# Altium schematic symbol library R 0603 1% YAGEO.SchLib: 250 symbols (part 1 of 3)
Pins are listed as number, name and electrical type; pins without a type are passive.

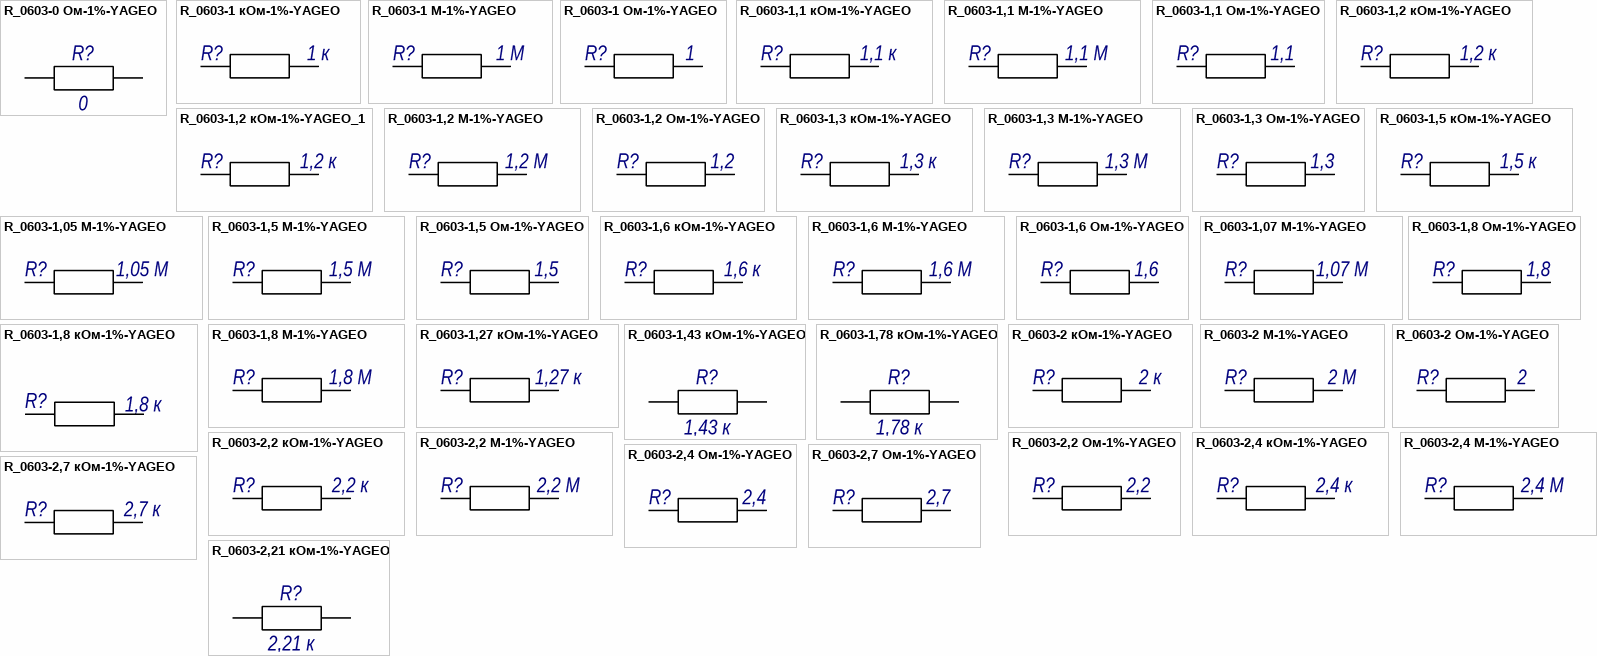
[diagram p0: symbols R_0603-0 Ом-1%-YAGEO to R_0603-2,21 кОм-1%-YAGEO]

## R_0603-0 Ом-1%-YAGEO
designator R?, comment value 0  (hidden comment: Резистор чип 0603-0,1 Вт-0 Ом ±1% фирма "YAGEO")
чип 0603-0,1 Вт-0 Ом ±1% фирма "YAGEO"; Power: 0,1 Вт; Tol: ± 1%; Manufacturer: фирма "YAGEO"; Name: Резистор; TYP: чип 0603; GOST: Резистор чип 0603-0,1 Вт-0 Ом ±1% фирма "YAGEO"
footprint R0603_H05M (Dim 1.6mm*0.8mm H=0.45mm)
pins: 1, 2
1 alternate drawing of the same symbol

## R_0603-1 кОм-1%-YAGEO
designator R?, comment value 1 к  (hidden comment: Резистор чип 0603-0,1 Вт-1 кОм ±1% фирма "YAGEO")
чип 0603-0,1 Вт-1 кОм ±1% фирма "YAGEO"; Power: 0,1 Вт; Tol: ± 1%; Manufacturer: фирма "YAGEO"; Name: Резистор; TYP: чип 0603; GOST: Резистор чип 0603-0,1 Вт-1 кОм ±1% фирма "YAGEO"
footprint R0603_H05M (Dim 1.6mm*0.8mm H=0.45mm)
pins: 1, 2
1 alternate drawing of the same symbol

## R_0603-1 М-1%-YAGEO
designator R?, comment value 1 М  (hidden comment: Резистор чип 0603-0,1 Вт-1 МОм ±1% фирма "YAGEO")
чип 0603-0,1 Вт-1 МОм ±1% фирма "YAGEO"; Power: 0,1 Вт; Tol: ± 1%; Manufacturer: фирма "YAGEO"; Name: Резистор; TYP: чип 0603; GOST: Резистор чип 0603-0,1 Вт-1 МОм ±1% фирма "YAGEO"
footprint R0603_H05M (Dim 1.6mm*0.8mm H=0.45mm)
pins: 1, 2
1 alternate drawing of the same symbol

## R_0603-1 Ом-1%-YAGEO
designator R?, comment value 1  (hidden comment: Резистор чип 0603-0,1 Вт-1 Ом ±1% фирма "YAGEO")
чип 0603-0,1 Вт-1 Ом ±1% фирма "YAGEO"; Power: 0,1 Вт; Tol: ± 1%; Manufacturer: фирма "YAGEO"; Name: Резистор; TYP: чип 0603; GOST: Резистор чип 0603-0,1 Вт-1 Ом ±1% фирма "YAGEO"
footprint R0603_H05M (Dim 1.6mm*0.8mm H=0.45mm)
pins: 1, 2
1 alternate drawing of the same symbol

## R_0603-1,1 кОм-1%-YAGEO
designator R?, comment value 1,1 к  (hidden comment: Резистор чип 0603-0,1 Вт-1,1 кОм ±1% фирма "YAGEO")
чип 0603-0,1 Вт-1,1 кОм ±1% фирма "YAGEO"; Power: 0,1 Вт; Manufacturer: фирма "YAGEO"; Name: Резистор; TYP: чип 0603; GOST: Резистор чип 0603-0,1 Вт-1,1 кОм ±1% фирма "YAGEO"; Tol: ± 1%
footprint R0603_H05M (Dim 1.6mm*0.8mm H=0.45mm)
pins: 1, 2
1 alternate drawing of the same symbol

## R_0603-1,1 М-1%-YAGEO
designator R?, comment value 1,1 М  (hidden comment: Резистор чип 0603-0,1 Вт-1,1 МОм ±1% фирма "YAGEO")
чип 0603-0,1 Вт-1,1 МОм ±1% фирма "YAGEO"; Power: 0,1 Вт; Tol: ± 1%; Manufacturer: фирма "YAGEO"; Name: Резистор; TYP: чип 0603; GOST: Резистор чип 0603-0,1 Вт-1,1 МОм ±1% фирма "YAGEO"
footprint R0603_H05M (Dim 1.6mm*0.8mm H=0.45mm)
pins: 1, 2
1 alternate drawing of the same symbol

## R_0603-1,1 Ом-1%-YAGEO
designator R?, comment value 1,1  (hidden comment: Резистор чип 0603-0,1 Вт-1,1 Ом ±1% фирма "YAGEO")
чип 0603-0,1 Вт-1,1 Ом ±1% фирма "YAGEO"; Power: 0,1 Вт; Tol: ± 1%; Manufacturer: фирма "YAGEO"; Name: Резистор; TYP: чип 0603; GOST: Резистор чип 0603-0,1 Вт-1,1 Ом ±1% фирма "YAGEO"
footprint R0603_H05M (Dim 1.6mm*0.8mm H=0.45mm)
pins: 1, 2
1 alternate drawing of the same symbol

## R_0603-1,2 кОм-1%-YAGEO
designator R?, comment value 1,2 к  (hidden comment: Резистор чип 0603-0,1 Вт-1,2 кОм ±1% фирма "YAGEO")
чип 0603-0,1 Вт-1,2 кОм ±1% фирма "YAGEO"; Power: 0,1 Вт; Manufacturer: фирма "YAGEO"; Name: Резистор; TYP: чип 0603; GOST: Резистор чип 0603-0,1 Вт-1,2 кОм ±1% фирма "YAGEO"; Tol: ± 1%
footprint R0603_H05M (Dim 1.6mm*0.8mm H=0.45mm)
pins: 1, 2
1 alternate drawing of the same symbol

## R_0603-1,2 кОм-1%-YAGEO_1
designator R?, comment value 1,2 к  (hidden comment: Резистор чип 0603-0,1 Вт-1,2 кОм ±1% фирма "YAGEO")
чип 0603-0,1 Вт-1,2 кОм ±1% фирма "YAGEO"; Power: 0,1 Вт; Manufacturer: фирма "YAGEO"; Name: Резистор; TYP: чип 0603; GOST: Резистор чип 0603-0,1 Вт-1,2 кОм ±1% фирма "YAGEO"; Tol: ± 1%
footprint R0603_H05M (Dim 1.6mm*0.8mm H=0.45mm)
pins: 1, 2
1 alternate drawing of the same symbol

## R_0603-1,2 М-1%-YAGEO
designator R?, comment value 1,2 М  (hidden comment: Резистор чип 0603-0,1 Вт-1,2 МОм ±1% фирма "YAGEO")
чип 0603-0,1 Вт-1,2 МОм ±1% фирма "YAGEO"; Power: 0,1 Вт; Tol: ± 1%; Manufacturer: фирма "YAGEO"; Name: Резистор; TYP: чип 0603; GOST: Резистор чип 0603-0,1 Вт-1,2 МОм ±1% фирма "YAGEO"
footprint R0603_H05M (Dim 1.6mm*0.8mm H=0.45mm)
pins: 1, 2
1 alternate drawing of the same symbol

## R_0603-1,2 Ом-1%-YAGEO
designator R?, comment value 1,2  (hidden comment: Резистор чип 0603-0,1 Вт-1,2 Ом ±1% фирма "YAGEO")
чип 0603-0,1 Вт-1,2 Ом ±1% фирма "YAGEO"; Power: 0,1 Вт; Tol: ± 1%; Manufacturer: фирма "YAGEO"; Name: Резистор; TYP: чип 0603; GOST: Резистор чип 0603-0,1 Вт-1,2 Ом ±1% фирма "YAGEO"
footprint R0603_H05M (Dim 1.6mm*0.8mm H=0.45mm)
pins: 1, 2
1 alternate drawing of the same symbol

## R_0603-1,3 кОм-1%-YAGEO
designator R?, comment value 1,3 к  (hidden comment: Резистор чип 0603-0,1 Вт-1,3 кОм ±1% фирма "YAGEO")
чип 0603-0,1 Вт-1,3 кОм ±1% фирма "YAGEO"; Power: 0,1 Вт; Manufacturer: фирма "YAGEO"; Name: Резистор; TYP: чип 0603; GOST: Резистор чип 0603-0,1 Вт-1,3 кОм ±1% фирма "YAGEO"; Tol: ± 1%
footprint R0603_H05M (Dim 1.6mm*0.8mm H=0.45mm)
pins: 1, 2
1 alternate drawing of the same symbol

## R_0603-1,3 М-1%-YAGEO
designator R?, comment value 1,3 М  (hidden comment: Резистор чип 0603-0,1 Вт-1,3 МОм ±1% фирма "YAGEO")
чип 0603-0,1 Вт-1,3 МОм ±1% фирма "YAGEO"; Power: 0,1 Вт; Tol: ± 1%; Manufacturer: фирма "YAGEO"; Name: Резистор; TYP: чип 0603; GOST: Резистор чип 0603-0,1 Вт-1,3 МОм ±1% фирма "YAGEO"
footprint R0603_H05M (Dim 1.6mm*0.8mm H=0.45mm)
pins: 1, 2
1 alternate drawing of the same symbol

## R_0603-1,3 Ом-1%-YAGEO
designator R?, comment value 1,3  (hidden comment: Резистор чип 0603-0,1 Вт-1,3 Ом ±1% фирма "YAGEO")
чип 0603-0,1 Вт-1,3 Ом ±1% фирма "YAGEO"; Power: 0,1 Вт; Tol: ± 1%; Manufacturer: фирма "YAGEO"; Name: Резистор; TYP: чип 0603; GOST: Резистор чип 0603-0,1 Вт-1,3 Ом ±1% фирма "YAGEO"
footprint R0603_H05M (Dim 1.6mm*0.8mm H=0.45mm)
pins: 1, 2
1 alternate drawing of the same symbol

## R_0603-1,5 кОм-1%-YAGEO
designator R?, comment value 1,5 к  (hidden comment: Резистор чип 0603-0,1 Вт-1,5 кОм ±1% фирма "YAGEO")
чип 0603-0,1 Вт-1,5 кОм ±1% фирма "YAGEO"; Power: 0,1 Вт; Manufacturer: фирма "YAGEO"; Name: Резистор; TYP: чип 0603; GOST: Резистор чип 0603-0,1 Вт-1,5 кОм ±1% фирма "YAGEO"; Tol: ± 1%
footprint R0603_H05M (Dim 1.6mm*0.8mm H=0.45mm)
pins: 1, 2
1 alternate drawing of the same symbol

## R_0603-1,05 М-1%-YAGEO
designator R?, comment value 1,05 М  (hidden comment: Резистор чип 0603-0,1 Вт-1,05 МОм ±1% фирма "YAGEO")
чип 0603-0,1 Вт-1,05 МОм ±1% фирма "YAGEO"; Power: 0,1 Вт; Tol: ± 1%; Manufacturer: фирма "YAGEO"; Name: Резистор; TYP: чип 0603; GOST: Резистор чип 0603-0,1 Вт-1,05 МОм ±1% фирма "YAGEO"
footprint R0603_H05M (Dim 1.6mm*0.8mm H=0.45mm)
pins: 1, 2
1 alternate drawing of the same symbol

## R_0603-1,5 М-1%-YAGEO
designator R?, comment value 1,5 М  (hidden comment: Резистор чип 0603-0,1 Вт-1,5 МОм ±1% фирма "YAGEO")
чип 0603-0,1 Вт-1,5 МОм ±1% фирма "YAGEO"; Power: 0,1 Вт; Tol: ± 1%; Manufacturer: фирма "YAGEO"; Name: Резистор; TYP: чип 0603; GOST: Резистор чип 0603-0,1 Вт-1,5 МОм ±1% фирма "YAGEO"
footprint R0603_H05M (Dim 1.6mm*0.8mm H=0.45mm)
pins: 1, 2
1 alternate drawing of the same symbol

## R_0603-1,5 Ом-1%-YAGEO
designator R?, comment value 1,5  (hidden comment: Резистор чип 0603-0,1 Вт-1,5 Ом ±1% фирма "YAGEO")
чип 0603-0,1 Вт-1,5 Ом ±1% фирма "YAGEO"; Power: 0,1 Вт; Tol: ± 1%; Manufacturer: фирма "YAGEO"; Name: Резистор; TYP: чип 0603; GOST: Резистор чип 0603-0,1 Вт-1,5 Ом ±1% фирма "YAGEO"
footprint R0603_H05M (Dim 1.6mm*0.8mm H=0.45mm)
pins: 1, 2
1 alternate drawing of the same symbol

## R_0603-1,6 кОм-1%-YAGEO
designator R?, comment value 1,6 к  (hidden comment: Резистор чип 0603-0,1 Вт-1,6 кОм ±1% фирма "YAGEO")
чип 0603-0,1 Вт-1,6 кОм ±1% фирма "YAGEO"; Power: 0,1 Вт; Manufacturer: фирма "YAGEO"; Name: Резистор; TYP: чип 0603; GOST: Резистор чип 0603-0,1 Вт-1,6 кОм ±1% фирма "YAGEO"; Tol: ± 1%
footprint R0603_H05M (Dim 1.6mm*0.8mm H=0.45mm)
pins: 1, 2
1 alternate drawing of the same symbol

## R_0603-1,6 М-1%-YAGEO
designator R?, comment value 1,6 М  (hidden comment: Резистор чип 0603-0,1 Вт-1,6 МОм ±1% фирма "YAGEO")
чип 0603-0,1 Вт-1,6 МОм ±1% фирма "YAGEO"; Power: 0,1 Вт; Tol: ± 1%; Manufacturer: фирма "YAGEO"; Name: Резистор; TYP: чип 0603; GOST: Резистор чип 0603-0,1 Вт-1,6 МОм ±1% фирма "YAGEO"
footprint R0603_H05M (Dim 1.6mm*0.8mm H=0.45mm)
pins: 1, 2
1 alternate drawing of the same symbol

## R_0603-1,6 Ом-1%-YAGEO
designator R?, comment value 1,6  (hidden comment: Резистор чип 0603-0,1 Вт-1,6 Ом ±1% фирма "YAGEO")
чип 0603-0,1 Вт-1,6 Ом ±1% фирма "YAGEO"; Power: 0,1 Вт; Tol: ± 1%; Manufacturer: фирма "YAGEO"; Name: Резистор; TYP: чип 0603; GOST: Резистор чип 0603-0,1 Вт-1,6 Ом ±1% фирма "YAGEO"
footprint R0603_H05M (Dim 1.6mm*0.8mm H=0.45mm)
pins: 1, 2
1 alternate drawing of the same symbol

## R_0603-1,07 М-1%-YAGEO
designator R?, comment value 1,07 М  (hidden comment: Резистор чип 0603-0,1 Вт-1,07 МОм ±1% фирма "YAGEO")
чип 0603-0,1 Вт-1,07 МОм ±1% фирма "YAGEO"; Power: 0,1 Вт; Tol: ± 1%; Manufacturer: фирма "YAGEO"; Name: Резистор; TYP: чип 0603; GOST: Резистор чип 0603-0,1 Вт-1,07 МОм ±1% фирма "YAGEO"
footprint R0603_H05M (Dim 1.6mm*0.8mm H=0.45mm)
pins: 1, 2
1 alternate drawing of the same symbol

## R_0603-1,8 кОм-1%-YAGEO
designator R?, comment value 1,8 к  (hidden comment: Резистор чип 0603-0,1 Вт-1,8 кОм ±1% фирма "YAGEO")
чип 0603-0,1 Вт-1,8 кОм ±1% фирма "YAGEO"; Power: 0,1 Вт; Tol: ± 1%; Manufacturer: фирма "YAGEO"; Name: Резистор; TYP: чип 0603; GOST: Резистор чип 0603-0,1 Вт-1,8 кОм ±1% фирма "YAGEO"
footprint R0603_H05M (Dim 1.6mm*0.8mm H=0.45mm)
pins: 1, 2
1 alternate drawing of the same symbol

## R_0603-1,8 М-1%-YAGEO
designator R?, comment value 1,8 М  (hidden comment: Резистор чип 0603-0,1 Вт-1,8 МОм ±1% фирма "YAGEO")
чип 0603-0,1 Вт-1,8 МОм ±1% фирма "YAGEO"; Power: 0,1 Вт; Tol: ± 1%; Manufacturer: фирма "YAGEO"; Name: Резистор; TYP: чип 0603; GOST: Резистор чип 0603-0,1 Вт-1,8 МОм ±1% фирма "YAGEO"
footprint R0603_H05M (Dim 1.6mm*0.8mm H=0.45mm)
pins: 1, 2
1 alternate drawing of the same symbol

## R_0603-1,8 Ом-1%-YAGEO
designator R?, comment value 1,8  (hidden comment: Резистор чип 0603-0,1 Вт-1,8 Ом ±1% фирма "YAGEO")
чип 0603-0,1 Вт-1,8 Ом ±1% фирма "YAGEO"; Power: 0,1 Вт; Tol: ± 1%; Manufacturer: фирма "YAGEO"; Name: Резистор; TYP: чип 0603; GOST: Резистор чип 0603-0,1 Вт-1,8 Ом ±1% фирма "YAGEO"
footprint R0603_H05M (Dim 1.6mm*0.8mm H=0.45mm)
pins: 1, 2
1 alternate drawing of the same symbol

## R_0603-1,27 кОм-1%-YAGEO
designator R?, comment value 1,27 к  (hidden comment: Резистор чип 0603-0,1 Вт-1,27 кОм ±1% фирма "YAGEO")
чип 0603-0,1 Вт-1,27 кОм ±1% фирма "YAGEO"; Power: 0,1 Вт; Manufacturer: фирма "YAGEO"; Name: Резистор; TYP: чип 0603; GOST: Резистор чип 0603-0,1 Вт-1,27 кОм ±1% фирма "YAGEO"; Tol: ± 1%
footprint R0603_H05M (Dim 1.6mm*0.8mm H=0.45mm)
pins: 1, 2
1 alternate drawing of the same symbol

## R_0603-1,43 кОм-1%-YAGEO
designator R?, comment value 1,43 к  (hidden comment: Резистор чип 0603-0,1 Вт-1,43 кОм ±1% фирма "YAGEO")
чип 0603-0,1 Вт-1,43 кОм ±1% фирма "YAGEO"; Power: 0,1 Вт; Tol: ± 1%; Manufacturer: фирма "YAGEO"; Name: Резистор; TYP: чип 0603; GOST: Резистор чип 0603-0,1 Вт-1,43 кОм ±1% фирма "YAGEO"
footprint R0603_H05M (Dim 1.6mm*0.8mm H=0.45mm)
pins: 1, 2
1 alternate drawing of the same symbol

## R_0603-1,78 кОм-1%-YAGEO
designator R?, comment value 1,78 к  (hidden comment: Резистор чип 0603-0,1 Вт-1,78 кОм ±1% фирма "YAGEO")
чип 0603-0,1 Вт-1,78 кОм ±1% фирма "YAGEO"; Power: 0,1 Вт; Tol: ± 1%; Manufacturer: фирма "YAGEO"; Name: Резистор; TYP: чип 0603; GOST: Резистор чип 0603-0,1 Вт-1,78 кОм ±1% фирма "YAGEO"
footprint R0603_H05M (Dim 1.6mm*0.8mm H=0.45mm)
pins: 1, 2
1 alternate drawing of the same symbol

## R_0603-2 кОм-1%-YAGEO
designator R?, comment value 2 к  (hidden comment: Резистор чип 0603-0,1 Вт-2 кОм ±1% фирма "YAGEO")
чип 0603-0,1 Вт-2 кОм ±1% фирма "YAGEO"; Power: 0,1 Вт; Manufacturer: фирма "YAGEO"; Name: Резистор; TYP: чип 0603; GOST: Резистор чип 0603-0,1 Вт-2 кОм ±1% фирма "YAGEO"; Tol: ± 1%
footprint R0603_H05M (Dim 1.6mm*0.8mm H=0.45mm)
pins: 1, 2
1 alternate drawing of the same symbol

## R_0603-2 М-1%-YAGEO
designator R?, comment value 2 М  (hidden comment: Резистор чип 0603-0,1 Вт-2 МОм ±1% фирма "YAGEO")
чип 0603-0,1 Вт-2 МОм ±1% фирма "YAGEO"; Power: 0,1 Вт; Tol: ± 1%; Manufacturer: фирма "YAGEO"; Name: Резистор; TYP: чип 0603; GOST: Резистор чип 0603-0,1 Вт-2 МОм ±1% фирма "YAGEO"
footprint R0603_H05M (Dim 1.6mm*0.8mm H=0.45mm)
pins: 1, 2
1 alternate drawing of the same symbol

## R_0603-2 Ом-1%-YAGEO
designator R?, comment value 2  (hidden comment: Резистор чип 0603-0,1 Вт-2 Ом ±1% фирма "YAGEO")
чип 0603-0,1 Вт-2 Ом ±1% фирма "YAGEO"; Power: 0,1 Вт; Tol: ± 1%; Manufacturer: фирма "YAGEO"; Name: Резистор; TYP: чип 0603; GOST: Резистор чип 0603-0,1 Вт-2 Ом ±1% фирма "YAGEO"
footprint R0603_H05M (Dim 1.6mm*0.8mm H=0.45mm)
pins: 1, 2
1 alternate drawing of the same symbol

## R_0603-2,2 кОм-1%-YAGEO
designator R?, comment value 2,2 к  (hidden comment: Резистор чип 0603-0,1 Вт-2,2 кОм ±1% фирма "YAGEO")
чип 0603-0,1 Вт-2,2 кОм ±1% фирма "YAGEO"; Power: 0,1 Вт; Manufacturer: фирма "YAGEO"; Name: Резистор; TYP: чип 0603; GOST: Резистор чип 0603-0,1 Вт-2,2 кОм ±1% фирма "YAGEO"; Tol: ± 1%
footprint R0603_H05M (Dim 1.6mm*0.8mm H=0.45mm)
pins: 1, 2
1 alternate drawing of the same symbol

## R_0603-2,2 М-1%-YAGEO
designator R?, comment value 2,2 М  (hidden comment: Резистор чип 0603-0,1 Вт-2,2 МОм ±1% фирма "YAGEO")
чип 0603-0,1 Вт-2,2 МОм ±1% фирма "YAGEO"; Power: 0,1 Вт; Tol: ± 1%; Manufacturer: фирма "YAGEO"; Name: Резистор; TYP: чип 0603; GOST: Резистор чип 0603-0,1 Вт-2,2 МОм ±1% фирма "YAGEO"
footprint R0603_H05M (Dim 1.6mm*0.8mm H=0.45mm)
pins: 1, 2
1 alternate drawing of the same symbol

## R_0603-2,2 Ом-1%-YAGEO
designator R?, comment value 2,2  (hidden comment: Резистор чип 0603-0,1 Вт-2,2 Ом ±1% фирма "YAGEO")
чип 0603-0,1 Вт-2,2 Ом ±1% фирма "YAGEO"; Power: 0,1 Вт; Tol: ± 1%; Manufacturer: фирма "YAGEO"; Name: Резистор; TYP: чип 0603; GOST: Резистор чип 0603-0,1 Вт-2,2 Ом ±1% фирма "YAGEO"
footprint R0603_H05M (Dim 1.6mm*0.8mm H=0.45mm)
pins: 1, 2
1 alternate drawing of the same symbol

## R_0603-2,4 кОм-1%-YAGEO
designator R?, comment value 2,4 к  (hidden comment: Резистор чип 0603-0,1 Вт-2,4 кОм ±1% фирма "YAGEO")
чип 0603-0,1 Вт-2,4 кОм ±1% фирма "YAGEO"; Power: 0,1 Вт; Manufacturer: фирма "YAGEO"; Name: Резистор; TYP: чип 0603; GOST: Резистор чип 0603-0,1 Вт-2,4 кОм ±1% фирма "YAGEO"; Tol: ± 1%
footprint R0603_H05M (Dim 1.6mm*0.8mm H=0.45mm)
pins: 1, 2
1 alternate drawing of the same symbol

## R_0603-2,4 М-1%-YAGEO
designator R?, comment value 2,4 М  (hidden comment: Резистор чип 0603-0,1 Вт-2,4 МОм ±1% фирма "YAGEO")
чип 0603-0,1 Вт-2,4 МОм ±1% фирма "YAGEO"; Power: 0,1 Вт; Tol: ± 1%; Manufacturer: фирма "YAGEO"; Name: Резистор; TYP: чип 0603; GOST: Резистор чип 0603-0,1 Вт-2,4 МОм ±1% фирма "YAGEO"
footprint R0603_H05M (Dim 1.6mm*0.8mm H=0.45mm)
pins: 1, 2
1 alternate drawing of the same symbol

## R_0603-2,4 Ом-1%-YAGEO
designator R?, comment value 2,4  (hidden comment: Резистор чип 0603-0,1 Вт-2,4 Ом ±1% фирма "YAGEO")
чип 0603-0,1 Вт-2,4 Ом ±1% фирма "YAGEO"; Power: 0,1 Вт; Tol: ± 1%; Manufacturer: фирма "YAGEO"; Name: Резистор; TYP: чип 0603; GOST: Резистор чип 0603-0,1 Вт-2,4 Ом ±1% фирма "YAGEO"
footprint R0603_H05M (Dim 1.6mm*0.8mm H=0.45mm)
pins: 1, 2
1 alternate drawing of the same symbol

## R_0603-2,7 кОм-1%-YAGEO
designator R?, comment value 2,7 к  (hidden comment: Резистор чип 0603-0,1 Вт-2,7 кОм ±1% фирма "YAGEO")
чип 0603-0,1 Вт-2,7 кОм ±1% фирма "YAGEO"; Power: 0,1 Вт; Manufacturer: фирма "YAGEO"; Name: Резистор; TYP: чип 0603; GOST: Резистор чип 0603-0,1 Вт-2,7 кОм ±1% фирма "YAGEO"; Tol: ± 1%
footprint R0603_H05M (Dim 1.6mm*0.8mm H=0.45mm)
pins: 1, 2
1 alternate drawing of the same symbol

## R_0603-2,7 Ом-1%-YAGEO
designator R?, comment value 2,7  (hidden comment: Резистор чип 0603-0,1 Вт-2,7 Ом ±1% фирма "YAGEO")
чип 0603-0,1 Вт-2,7 Ом ±1% фирма "YAGEO"; Power: 0,1 Вт; Tol: ± 1%; Manufacturer: фирма "YAGEO"; Name: Резистор; TYP: чип 0603; GOST: Резистор чип 0603-0,1 Вт-2,7 Ом ±1% фирма "YAGEO"
footprint R0603_H05M (Dim 1.6mm*0.8mm H=0.45mm)
pins: 1, 2
1 alternate drawing of the same symbol

## R_0603-2,21 кОм-1%-YAGEO
designator R?, comment value 2,21 к  (hidden comment: Резистор чип 0603-0,1 Вт-2,21 кОм ±1% фирма "YAGEO")
чип 0603-0,1 Вт-2,21 кОм ±1% фирма "YAGEO"; Power: 0,1 Вт; Tol: ± 1%; Manufacturer: фирма "YAGEO"; Name: Резистор; TYP: чип 0603; GOST: Резистор чип 0603-0,1 Вт-2,21 кОм ±1% фирма "YAGEO"
footprint R0603_H05M (Dim 1.6mm*0.8mm H=0.45mm)
pins: 1, 2
1 alternate drawing of the same symbol

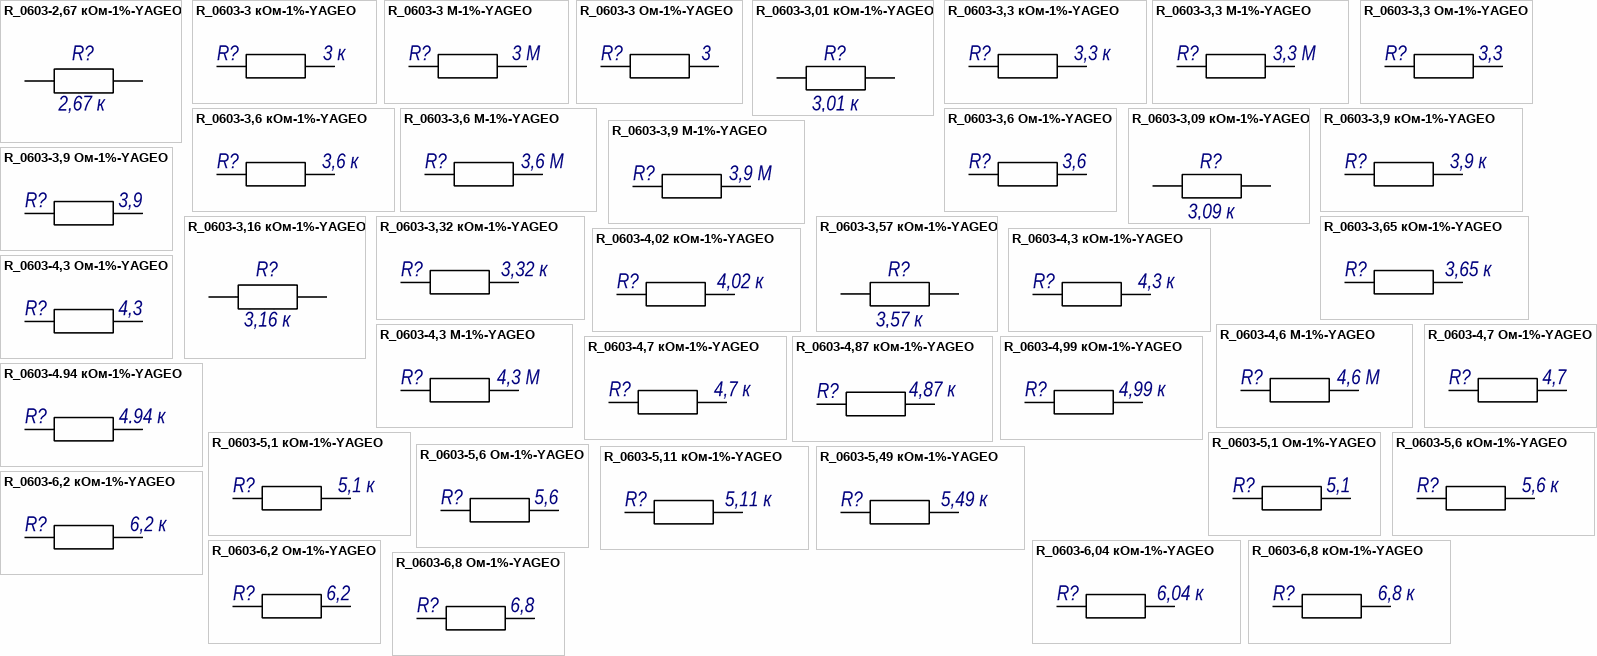
[diagram p1: symbols R_0603-2,67 кОм-1%-YAGEO to R_0603-6,8 Ом-1%-YAGEO]

## R_0603-2,67 кОм-1%-YAGEO
designator R?, comment value 2,67 к  (hidden comment: Резистор чип 0603-0,1 Вт-2,67 кОм ±1% фирма "YAGEO")
чип 0603-0,1 Вт-2,67 кОм ±1% фирма "YAGEO"; Power: 0,1 Вт; Tol: ± 1%; Manufacturer: фирма "YAGEO"; Name: Резистор; TYP: чип 0603; GOST: Резистор чип 0603-0,1 Вт-2,67 кОм ±1% фирма "YAGEO"
footprint R0603_H05M (Dim 1.6mm*0.8mm H=0.45mm)
pins: 1, 2
1 alternate drawing of the same symbol

## R_0603-3 кОм-1%-YAGEO
designator R?, comment value 3 к  (hidden comment: Резистор чип 0603-0,1 Вт-3 кОм ±1% фирма "YAGEO")
чип 0603-0,1 Вт-3 кОм ±1% фирма "YAGEO"; Power: 0,1 Вт; Manufacturer: фирма "YAGEO"; Name: Резистор; TYP: чип 0603; GOST: Резистор чип 0603-0,1 Вт-3 кОм ±1% фирма "YAGEO"; Tol: ± 1%
footprint R0603_H05M (Dim 1.6mm*0.8mm H=0.45mm)
pins: 1, 2
1 alternate drawing of the same symbol

## R_0603-3 М-1%-YAGEO
designator R?, comment value 3 М  (hidden comment: Резистор чип 0603-0,1 Вт-3 МОм ±1% фирма "YAGEO")
чип 0603-0,1 Вт-3 МОм ±1% фирма "YAGEO"; Power: 0,1 Вт; Tol: ± 1%; Manufacturer: фирма "YAGEO"; Name: Резистор; TYP: чип 0603; GOST: Резистор чип 0603-0,1 Вт-3 МОм ±1% фирма "YAGEO"
footprint R0603_H05M (Dim 1.6mm*0.8mm H=0.45mm)
pins: 1, 2
1 alternate drawing of the same symbol

## R_0603-3 Ом-1%-YAGEO
designator R?, comment value 3  (hidden comment: Резистор чип 0603-0,1 Вт-3 Ом ±1% фирма "YAGEO")
чип 0603-0,1 Вт-3 Ом ±1% фирма "YAGEO"; Power: 0,1 Вт; Tol: ± 1%; Manufacturer: фирма "YAGEO"; Name: Резистор; TYP: чип 0603; GOST: Резистор чип 0603-0,1 Вт-3 Ом ±1% фирма "YAGEO"
footprint R0603_H05M (Dim 1.6mm*0.8mm H=0.45mm)
pins: 1, 2
1 alternate drawing of the same symbol

## R_0603-3,01 кОм-1%-YAGEO
designator R?, comment value 3,01 к  (hidden comment: Резистор чип 0603-0,1 Вт-3,01 кОм ±1% фирма "YAGEO")
чип 0603-0,1 Вт-3,01 кОм ±1% фирма "YAGEO"; Power: 0,1 Вт; Tol: ± 1%; Manufacturer: фирма "YAGEO"; Name: Резистор; TYP: чип 0603; GOST: Резистор чип 0603-0,1 Вт-3,01 кОм ±1% фирма "YAGEO"
footprint R0603_H05M (Dim 1.6mm*0.8mm H=0.45mm)
pins: 1, 2
1 alternate drawing of the same symbol

## R_0603-3,3 кОм-1%-YAGEO
designator R?, comment value 3,3 к  (hidden comment: Резистор чип 0603-0,1 Вт-3,3 кОм ±1% фирма "YAGEO")
чип 0603-0,1 Вт-3,3 кОм ±1% фирма "YAGEO"; Power: 0,1 Вт; Tol: ± 1%; Manufacturer: фирма "YAGEO"; Name: Резистор; TYP: чип 0603; GOST: Резистор чип 0603-0,1 Вт-3,3 кОм ±1% фирма "YAGEO"
footprint R0603_H05M (Dim 1.6mm*0.8mm H=0.45mm)
pins: 1, 2
1 alternate drawing of the same symbol

## R_0603-3,3 М-1%-YAGEO
designator R?, comment value 3,3 М  (hidden comment: Резистор чип 0603-0,1 Вт-3,3 МОм ±1% фирма "YAGEO")
чип 0603-0,1 Вт-3,3 МОм ±1% фирма "YAGEO"; Power: 0,1 Вт; Tol: ± 1%; Manufacturer: фирма "YAGEO"; Name: Резистор; TYP: чип 0603; GOST: Резистор чип 0603-0,1 Вт-3,3 МОм ±1% фирма "YAGEO"
footprint R0603_H05M (Dim 1.6mm*0.8mm H=0.45mm)
pins: 1, 2
1 alternate drawing of the same symbol

## R_0603-3,3 Ом-1%-YAGEO
designator R?, comment value 3,3  (hidden comment: Резистор чип 0603-0,1 Вт-3,3 Ом ±1% фирма "YAGEO")
чип 0603-0,1 Вт-3,3 Ом ±1% фирма "YAGEO"; Power: 0,1 Вт; Tol: ± 1%; Manufacturer: фирма "YAGEO"; Name: Резистор; TYP: чип 0603; GOST: Резистор чип 0603-0,1 Вт-3,3 Ом ±1% фирма "YAGEO"
footprint R0603_H05M (Dim 1.6mm*0.8mm H=0.45mm)
pins: 1, 2
1 alternate drawing of the same symbol

## R_0603-3,6 кОм-1%-YAGEO
designator R?, comment value 3,6 к  (hidden comment: Резистор чип 0603-0,1 Вт-3,6 кОм ±1% фирма "YAGEO")
чип 0603-0,1 Вт-3,6 кОм ±1% фирма "YAGEO"; Power: 0,1 Вт; Tol: ± 1%; Manufacturer: фирма "YAGEO"; Name: Резистор; TYP: чип 0603; GOST: Резистор чип 0603-0,1 Вт-3,6 кОм ±1% фирма "YAGEO"
footprint R0603_H05M (Dim 1.6mm*0.8mm H=0.45mm)
pins: 1, 2
1 alternate drawing of the same symbol

## R_0603-3,6 М-1%-YAGEO
designator R?, comment value 3,6 М  (hidden comment: Резистор чип 0603-0,1 Вт-3,6 МОм ±1% фирма "YAGEO")
чип 0603-0,1 Вт-3,6 МОм ±1% фирма "YAGEO"; Power: 0,1 Вт; Tol: ± 1%; Manufacturer: фирма "YAGEO"; Name: Резистор; TYP: чип 0603; GOST: Резистор чип 0603-0,1 Вт-3,6 МОм ±1% фирма "YAGEO"
footprint R0603_H05M (Dim 1.6mm*0.8mm H=0.45mm)
pins: 1, 2
1 alternate drawing of the same symbol

## R_0603-3,6 Ом-1%-YAGEO
designator R?, comment value 3,6  (hidden comment: Резистор чип 0603-0,1 Вт-3,6 Ом ±1% фирма "YAGEO")
чип 0603-0,1 Вт-3,6 Ом ±1% фирма "YAGEO"; Power: 0,1 Вт; Tol: ± 1%; Manufacturer: фирма "YAGEO"; Name: Резистор; TYP: чип 0603; GOST: Резистор чип 0603-0,1 Вт-3,6 Ом ±1% фирма "YAGEO"
footprint R0603_H05M (Dim 1.6mm*0.8mm H=0.45mm)
pins: 1, 2
1 alternate drawing of the same symbol

## R_0603-3,09 кОм-1%-YAGEO
designator R?, comment value 3,09 к  (hidden comment: Резистор чип 0603-0,1 Вт-3,09 кОм ±1% фирма "YAGEO")
чип 0603-0,1 Вт-3,09 кОм ±1% фирма "YAGEO"; Power: 0,1 Вт; Tol: ± 1%; Manufacturer: фирма "YAGEO"; Name: Резистор; TYP: чип 0603; GOST: Резистор чип 0603-0,1 Вт-3,09 кОм ±1% фирма "YAGEO"
footprint R0603_H05M (Dim 1.6mm*0.8mm H=0.45mm)
pins: 1, 2
1 alternate drawing of the same symbol

## R_0603-3,9 кОм-1%-YAGEO
designator R?, comment value 3,9 к  (hidden comment: Резистор чип 0603-0,1 Вт-3,9 кОм ±1% фирма "YAGEO")
чип 0603-0,1 Вт-3,9 кОм ±1% фирма "YAGEO"; Power: 0,1 Вт; Tol: ± 1%; Manufacturer: фирма "YAGEO"; Name: Резистор; TYP: чип 0603; GOST: Резистор чип 0603-0,1 Вт-3,9 кОм ±1% фирма "YAGEO"
footprint R0603_H05M (Dim 1.6mm*0.8mm H=0.45mm)
pins: 1, 2
1 alternate drawing of the same symbol

## R_0603-3,9 М-1%-YAGEO
designator R?, comment value 3,9 М  (hidden comment: Резистор чип 0603-0,1 Вт-3,9 МОм ±1% фирма "YAGEO")
чип 0603-0,1 Вт-3,9 МОм ±1% фирма "YAGEO"; Power: 0,1 Вт; Tol: ± 1%; Manufacturer: фирма "YAGEO"; Name: Резистор; TYP: чип 0603; GOST: Резистор чип 0603-0,1 Вт-3,9 МОм ±1% фирма "YAGEO"
footprint R0603_H05M (Dim 1.6mm*0.8mm H=0.45mm)
pins: 1, 2
1 alternate drawing of the same symbol

## R_0603-3,9 Ом-1%-YAGEO
designator R?, comment value 3,9  (hidden comment: Резистор чип 0603-0,1 Вт-3,9 Ом ±1% фирма "YAGEO")
чип 0603-0,1 Вт-3,9 Ом ±1% фирма "YAGEO"; Power: 0,1 Вт; Tol: ± 1%; Manufacturer: фирма "YAGEO"; Name: Резистор; TYP: чип 0603; GOST: Резистор чип 0603-0,1 Вт-3,9 Ом ±1% фирма "YAGEO"
footprint R0603_H05M (Dim 1.6mm*0.8mm H=0.45mm)
pins: 1, 2
1 alternate drawing of the same symbol

## R_0603-3,16 кОм-1%-YAGEO
designator R?, comment value 3,16 к  (hidden comment: Резистор чип 0603-0,1 Вт-3,16 кОм ±1% фирма "YAGEO")
чип 0603-0,1 Вт-3,16 кОм ±1% фирма "YAGEO"; Power: 0,1 Вт; Tol: ± 1%; Manufacturer: фирма "YAGEO"; Name: Резистор; TYP: чип 0603; GOST: Резистор чип 0603-0,1 Вт-3,16 кОм ±1% фирма "YAGEO"
footprint R0603_H05M (Dim 1.6mm*0.8mm H=0.45mm)
pins: 1, 2
1 alternate drawing of the same symbol

## R_0603-3,32 кОм-1%-YAGEO
designator R?, comment value 3,32 к  (hidden comment: Резистор чип 0603-0,1 Вт-3,32 кОм ±1% фирма "YAGEO")
чип 0603-0,1 Вт-3,32 кОм ±1% фирма "YAGEO"; Power: 0,1 Вт; Tol: ± 1%; Manufacturer: фирма "YAGEO"; Name: Резистор; TYP: чип 0603; GOST: Резистор чип 0603-0,1 Вт-3,32 кОм ±1% фирма "YAGEO"
footprint R0603_H05M (Dim 1.6mm*0.8mm H=0.45mm)
pins: 1, 2
1 alternate drawing of the same symbol

## R_0603-3,57 кОм-1%-YAGEO
designator R?, comment value 3,57 к  (hidden comment: Резистор чип 0603-0,1 Вт-3,57 кОм ±1% фирма "YAGEO")
чип 0603-0,1 Вт-3,57 кОм ±1% фирма "YAGEO"; Power: 0,1 Вт; Tol: ± 1%; Manufacturer: фирма "YAGEO"; Name: Резистор; TYP: чип 0603; GOST: Резистор чип 0603-0,1 Вт-3,57 кОм ±1% фирма "YAGEO"
footprint R0603_H05M (Dim 1.6mm*0.8mm H=0.45mm)
pins: 1, 2
1 alternate drawing of the same symbol

## R_0603-3,65 кОм-1%-YAGEO
designator R?, comment value 3,65 к  (hidden comment: Резистор чип 0603-0,1 Вт-3,65 кОм ±1% фирма "YAGEO")
чип 0603-0,1 Вт-3,65 кОм ±1% фирма "YAGEO"; Power: 0,1 Вт; Tol: ± 1%; Manufacturer: фирма "YAGEO"; Name: Резистор; TYP: чип 0603; GOST: Резистор чип 0603-0,1 Вт-3,65 кОм ±1% фирма "YAGEO"
footprint R0603_H05M (Dim 1.6mm*0.8mm H=0.45mm)
pins: 1, 2
1 alternate drawing of the same symbol

## R_0603-4,02 кОм-1%-YAGEO
designator R?, comment value 4,02 к  (hidden comment: Резистор чип 0603-0,1 Вт-4,02 кОм ±1% фирма "YAGEO")
чип 0603-0,1 Вт-4,02 кОм ±1% фирма "YAGEO"; Power: 0,1 Вт; Tol: ± 1%; Manufacturer: фирма "YAGEO"; Name: Резистор; TYP: чип 0603; GOST: Резистор чип 0603-0,1 Вт-4,02 кОм ±1% фирма "YAGEO"
footprint R0603_H05M (Dim 1.6mm*0.8mm H=0.45mm)
pins: 1, 2
1 alternate drawing of the same symbol

## R_0603-4,3 кОм-1%-YAGEO
designator R?, comment value 4,3 к  (hidden comment: Резистор чип 0603-0,1 Вт-4,3 кОм ±1% фирма "YAGEO")
чип 0603-0,1 Вт-4,3 кОм ±1% фирма "YAGEO"; Power: 0,1 Вт; Tol: ± 1%; Manufacturer: фирма "YAGEO"; Name: Резистор; TYP: чип 0603; GOST: Резистор чип 0603-0,1 Вт-4,3 кОм ±1% фирма "YAGEO"
footprint R0603_H05M (Dim 1.6mm*0.8mm H=0.45mm)
pins: 1, 2
1 alternate drawing of the same symbol

## R_0603-4,3 М-1%-YAGEO
designator R?, comment value 4,3 М  (hidden comment: Резистор чип 0603-0,1 Вт-4,3 МОм ±1% фирма "YAGEO")
чип 0603-0,1 Вт-4,3 МОм ±1% фирма "YAGEO"; Power: 0,1 Вт; Tol: ± 1%; Manufacturer: фирма "YAGEO"; Name: Резистор; TYP: чип 0603; GOST: Резистор чип 0603-0,1 Вт-4,3 МОм ±1% фирма "YAGEO"
footprint R0603_H05M (Dim 1.6mm*0.8mm H=0.45mm)
pins: 1, 2
1 alternate drawing of the same symbol

## R_0603-4,3 Ом-1%-YAGEO
designator R?, comment value 4,3  (hidden comment: Резистор чип 0603-0,1 Вт-4,3 Ом ±1% фирма "YAGEO")
чип 0603-0,1 Вт-4,3 Ом ±1% фирма "YAGEO"; Power: 0,1 Вт; Tol: ± 1%; Manufacturer: фирма "YAGEO"; Name: Резистор; TYP: чип 0603; GOST: Резистор чип 0603-0,1 Вт-4,3 Ом ±1% фирма "YAGEO"
footprint R0603_H05M (Dim 1.6mm*0.8mm H=0.45mm)
pins: 1, 2
1 alternate drawing of the same symbol

## R_0603-4,6 М-1%-YAGEO
designator R?, comment value 4,6 М  (hidden comment: Резистор чип 0603-0,1 Вт-4,6 МОм ±1% фирма "YAGEO")
чип 0603-0,1 Вт-4,6 МОм ±1% фирма "YAGEO"; Power: 0,1 Вт; Tol: ± 1%; Manufacturer: фирма "YAGEO"; Name: Резистор; TYP: чип 0603; GOST: Резистор чип 0603-0,1 Вт-4,6 МОм ±1% фирма "YAGEO"
footprint R0603_H05M (Dim 1.6mm*0.8mm H=0.45mm)
pins: 1, 2
1 alternate drawing of the same symbol

## R_0603-4,7 кОм-1%-YAGEO
designator R?, comment value 4,7 к  (hidden comment: Резистор чип 0603-0,1 Вт-4,7 кОм ±1% фирма "YAGEO")
чип 0603-0,1 Вт-4,7 кОм ±1% фирма "YAGEO"; Power: 0,1 Вт; Tol: ± 1%; Manufacturer: фирма "YAGEO"; Name: Резистор; TYP: чип 0603; GOST: Резистор чип 0603-0,1 Вт-4,7 кОм ±1% фирма "YAGEO"
footprint R0603_H05M (Dim 1.6mm*0.8mm H=0.45mm)
pins: 1, 2
1 alternate drawing of the same symbol

## R_0603-4,7 Ом-1%-YAGEO
designator R?, comment value 4,7  (hidden comment: Резистор чип 0603-0,1 Вт-4,7 Ом ±1% фирма "YAGEO")
чип 0603-0,1 Вт-4,7 Ом ±1% фирма "YAGEO"; Power: 0,1 Вт; Tol: ± 1%; Manufacturer: фирма "YAGEO"; Name: Резистор; TYP: чип 0603; GOST: Резистор чип 0603-0,1 Вт-4,7 Ом ±1% фирма "YAGEO"
footprint R0603_H05M (Dim 1.6mm*0.8mm H=0.45mm)
pins: 1, 2
1 alternate drawing of the same symbol

## R_0603-4,87 кОм-1%-YAGEO
designator R?, comment value 4,87 к  (hidden comment: Резистор чип 0603-0,1 Вт-4,87 кОм ±1% фирма "YAGEO")
чип 0603-0,1 Вт-4,87 кОм ±1% фирма "YAGEO"; Power: 0,1 Вт; Tol: ± 1%; Manufacturer: фирма "YAGEO"; Name: Резистор; TYP: чип 0603; GOST: Резистор чип 0603-0,1 Вт-4,87 кОм ±1% фирма "YAGEO"
footprint R0603_H05M (Dim 1.6mm*0.8mm H=0.45mm)
pins: 1, 2
1 alternate drawing of the same symbol

## R_0603-4,99 кОм-1%-YAGEO
designator R?, comment value 4,99 к  (hidden comment: Резистор чип 0603-0,1 Вт-4,99 кОм ±1% фирма "YAGEO")
чип 0603-0,1 Вт-4,99 кОм ±1% фирма "YAGEO"; Power: 0,1 Вт; Tol: ± 1%; Manufacturer: фирма "YAGEO"; Name: Резистор; TYP: чип 0603; GOST: Резистор чип 0603-0,1 Вт-4,99 кОм ±1% фирма "YAGEO"
footprint R0603_H05M (Dim 1.6mm*0.8mm H=0.45mm)
pins: 1, 2
1 alternate drawing of the same symbol

## R_0603-4.94 кОм-1%-YAGEO
designator R?, comment value 4.94 к  (hidden comment: Резистор чип 0603-0,1 Вт-4.94 кОм ±1% фирма "YAGEO")
чип 0603-0,1 Вт-4.94 кОм ±1% фирма "YAGEO"; Power: 0,1 Вт; Tol: ± 1%; Manufacturer: фирма "YAGEO"; Name: Резистор; TYP: чип 0603; GOST: Резистор чип 0603-0,1 Вт-4.94 кОм ±1% фирма "YAGEO"
footprint R0603_H05M (Dim 1.6mm*0.8mm H=0.45mm)
pins: 1, 2
1 alternate drawing of the same symbol

## R_0603-5,1 кОм-1%-YAGEO
designator R?, comment value 5,1 к  (hidden comment: Резистор чип 0603-0,1 Вт-5,1 кОм ±1% фирма "YAGEO")
чип 0603-0,1 Вт-5,1 кОм ±1% фирма "YAGEO"; Power: 0,1 Вт; Tol: ± 1%; Manufacturer: фирма "YAGEO"; Name: Резистор; TYP: чип 0603; GOST: Резистор чип 0603-0,1 Вт-5,1 кОм ±1% фирма "YAGEO"
footprint R0603_H05M (Dim 1.6mm*0.8mm H=0.45mm)
pins: 1, 2
1 alternate drawing of the same symbol

## R_0603-5,1 Ом-1%-YAGEO
designator R?, comment value 5,1  (hidden comment: Резистор чип 0603-0,1 Вт-5,1 Ом ±1% фирма "YAGEO")
чип 0603-0,1 Вт-5,1 Ом ±1% фирма "YAGEO"; Power: 0,1 Вт; Tol: ± 1%; Manufacturer: фирма "YAGEO"; Name: Резистор; TYP: чип 0603; GOST: Резистор чип 0603-0,1 Вт-5,1 Ом ±1% фирма "YAGEO"
footprint R0603_H05M (Dim 1.6mm*0.8mm H=0.45mm)
pins: 1, 2
1 alternate drawing of the same symbol

## R_0603-5,6 кОм-1%-YAGEO
designator R?, comment value 5,6 к  (hidden comment: Резистор чип 0603-0,1 Вт-5,6 кОм ±1% фирма "YAGEO")
чип 0603-0,1 Вт-5,6 кОм ±1% фирма "YAGEO"; Power: 0,1 Вт; Tol: ± 1%; Manufacturer: фирма "YAGEO"; Name: Резистор; TYP: чип 0603; GOST: Резистор чип 0603-0,1 Вт-5,6 кОм ±1% фирма "YAGEO"
footprint R0603_H05M (Dim 1.6mm*0.8mm H=0.45mm)
pins: 1, 2
1 alternate drawing of the same symbol

## R_0603-5,6 Ом-1%-YAGEO
designator R?, comment value 5,6  (hidden comment: Резистор чип 0603-0,1 Вт-5,6 Ом ±1% фирма "YAGEO")
чип 0603-0,1 Вт-5,6 Ом ±1% фирма "YAGEO"; Power: 0,1 Вт; Tol: ± 1%; Manufacturer: фирма "YAGEO"; Name: Резистор; TYP: чип 0603; GOST: Резистор чип 0603-0,1 Вт-5,6 Ом ±1% фирма "YAGEO"
footprint R0603_H05M (Dim 1.6mm*0.8mm H=0.45mm)
pins: 1, 2
1 alternate drawing of the same symbol

## R_0603-5,11 кОм-1%-YAGEO
designator R?, comment value 5,11 к  (hidden comment: Резистор чип 0603-0,1 Вт-5,11 кОм ±1% фирма "YAGEO")
чип 0603-0,1 Вт-5,11 кОм ±1% фирма "YAGEO"; Power: 0,1 Вт; Tol: ± 1%; Manufacturer: фирма "YAGEO"; Name: Резистор; TYP: чип 0603; GOST: Резистор чип 0603-0,1 Вт-5,11 кОм ±1% фирма "YAGEO"
footprint R0603_H05M (Dim 1.6mm*0.8mm H=0.45mm)
pins: 1, 2
1 alternate drawing of the same symbol

## R_0603-5,49 кОм-1%-YAGEO
designator R?, comment value 5,49 к  (hidden comment: Резистор чип 0603-0,1 Вт-5,49 кОм ±1% фирма "YAGEO")
чип 0603-0,1 Вт-5,49 кОм ±1% фирма "YAGEO"; Power: 0,1 Вт; Tol: ± 1%; Manufacturer: фирма "YAGEO"; Name: Резистор; TYP: чип 0603; GOST: Резистор чип 0603-0,1 Вт-5,49 кОм ±1% фирма "YAGEO"
footprint R0603_H05M (Dim 1.6mm*0.8mm H=0.45mm)
pins: 1, 2
1 alternate drawing of the same symbol

## R_0603-6,2 кОм-1%-YAGEO
designator R?, comment value 6,2 к  (hidden comment: Резистор чип 0603-0,1 Вт-6,2 кОм ±1% фирма "YAGEO")
чип 0603-0,1 Вт-6,2 кОм ±1% фирма "YAGEO"; Power: 0,1 Вт; Tol: ± 1%; Manufacturer: фирма "YAGEO"; Name: Резистор; TYP: чип 0603; GOST: Резистор чип 0603-0,1 Вт-6,2 кОм ±1% фирма "YAGEO"
footprint R0603_H05M (Dim 1.6mm*0.8mm H=0.45mm)
pins: 1, 2
1 alternate drawing of the same symbol

## R_0603-6,2 Ом-1%-YAGEO
designator R?, comment value 6,2  (hidden comment: Резистор чип 0603-0,1 Вт-6,2 Ом ±1% фирма "YAGEO")
чип 0603-0,1 Вт-6,2 Ом ±1% фирма "YAGEO"; Power: 0,1 Вт; Tol: ± 1%; Manufacturer: фирма "YAGEO"; Name: Резистор; TYP: чип 0603; GOST: Резистор чип 0603-0,1 Вт-6,2 Ом ±1% фирма "YAGEO"
footprint R0603_H05M (Dim 1.6mm*0.8mm H=0.45mm)
pins: 1, 2
1 alternate drawing of the same symbol

## R_0603-6,04 кОм-1%-YAGEO
designator R?, comment value 6,04 к  (hidden comment: Резистор чип 0603-0,1 Вт-6,04 кОм ±1% фирма "YAGEO")
чип 0603-0,1 Вт-6,04 кОм ±1% фирма "YAGEO"; Power: 0,1 Вт; Tol: ± 1%; Manufacturer: фирма "YAGEO"; Name: Резистор; TYP: чип 0603; GOST: Резистор чип 0603-0,1 Вт-6,04 кОм ±1% фирма "YAGEO"
footprint R0603_H05M (Dim 1.6mm*0.8mm H=0.45mm)
pins: 1, 2
1 alternate drawing of the same symbol

## R_0603-6,8 кОм-1%-YAGEO
designator R?, comment value 6,8 к  (hidden comment: Резистор чип 0603-0,1 Вт-6,8 кОм ±1% фирма "YAGEO")
чип 0603-0,1 Вт-6,8 кОм ±1% фирма "YAGEO"; Power: 0,1 Вт; Tol: ± 1%; Manufacturer: фирма "YAGEO"; Name: Резистор; TYP: чип 0603; GOST: Резистор чип 0603-0,1 Вт-6,8 кОм ±1% фирма "YAGEO"
footprint R0603_H05M (Dim 1.6mm*0.8mm H=0.45mm)
pins: 1, 2
1 alternate drawing of the same symbol

## R_0603-6,8 Ом-1%-YAGEO
designator R?, comment value 6,8  (hidden comment: Резистор чип 0603-0,1 Вт-6,8 Ом ±1% фирма "YAGEO")
чип 0603-0,1 Вт-6,8 Ом ±1% фирма "YAGEO"; Power: 0,1 Вт; Tol: ± 1%; Manufacturer: фирма "YAGEO"; Name: Резистор; TYP: чип 0603; GOST: Резистор чип 0603-0,1 Вт-6,8 Ом ±1% фирма "YAGEO"
footprint R0603_H05M (Dim 1.6mm*0.8mm H=0.45mm)
pins: 1, 2
1 alternate drawing of the same symbol

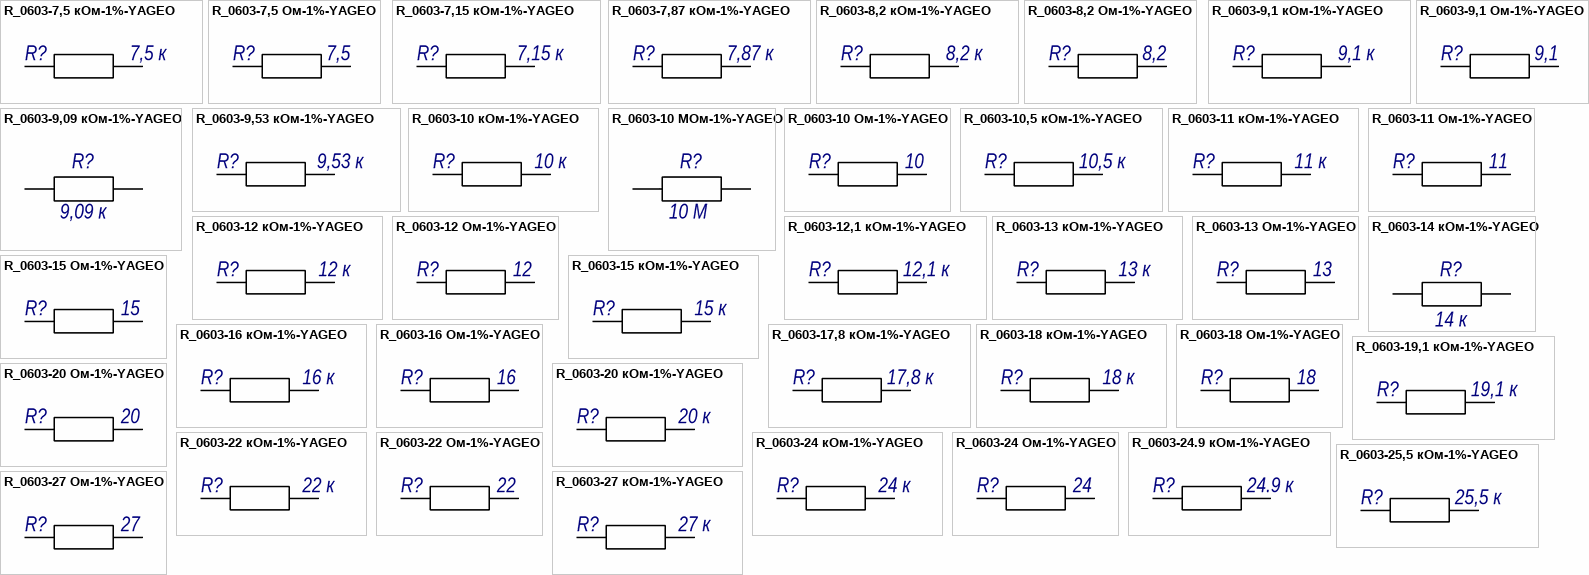
[diagram p2: symbols R_0603-7,5 кОм-1%-YAGEO to R_0603-27 Ом-1%-YAGEO]

## R_0603-7,5 кОм-1%-YAGEO
designator R?, comment value 7,5 к  (hidden comment: Резистор чип 0603-0,1 Вт-7,5 кОм ±1% фирма "YAGEO")
чип 0603-0,1 Вт-7,5 кОм ±1% фирма "YAGEO"; Power: 0,1 Вт; Tol: ± 1%; Manufacturer: фирма "YAGEO"; Name: Резистор; TYP: чип 0603; GOST: Резистор чип 0603-0,1 Вт-7,5 кОм ±1% фирма "YAGEO"
footprint R0603_H05M (Dim 1.6mm*0.8mm H=0.45mm)
pins: 1, 2
1 alternate drawing of the same symbol

## R_0603-7,5 Ом-1%-YAGEO
designator R?, comment value 7,5  (hidden comment: Резистор чип 0603-0,1 Вт-7,5 Ом ±1% фирма "YAGEO")
чип 0603-0,1 Вт-7,5 Ом ±1% фирма "YAGEO"; Power: 0,1 Вт; Tol: ± 1%; Manufacturer: фирма "YAGEO"; Name: Резистор; TYP: чип 0603; GOST: Резистор чип 0603-0,1 Вт-7,5 Ом ±1% фирма "YAGEO"
footprint R0603_H05M (Dim 1.6mm*0.8mm H=0.45mm)
pins: 1, 2
1 alternate drawing of the same symbol

## R_0603-7,15 кОм-1%-YAGEO
designator R?, comment value 7,15 к  (hidden comment: Резистор чип 0603-0,1 Вт-7,15 кОм ±1% фирма "YAGEO")
чип 0603-0,1 Вт-7,15 кОм ±1% фирма "YAGEO"; Power: 0,1 Вт; Tol: ± 1%; Manufacturer: фирма "YAGEO"; Name: Резистор; TYP: чип 0603; GOST: Резистор чип 0603-0,1 Вт-7,15 кОм ±1% фирма "YAGEO"
footprint R0603_H05M (Dim 1.6mm*0.8mm H=0.45mm)
pins: 1, 2
1 alternate drawing of the same symbol

## R_0603-7,87 кОм-1%-YAGEO
designator R?, comment value 7,87 к  (hidden comment: Резистор чип 0603-0,1 Вт-7,87 кОм ±1% фирма "YAGEO")
чип 0603-0,1 Вт-7,87 кОм ±1% фирма "YAGEO"; Power: 0,1 Вт; Manufacturer: фирма "YAGEO"; Name: Резистор; TYP: чип 0603; GOST: Резистор чип 0603-0,1 Вт-7,87 кОм ±1% фирма "YAGEO"; Tol: ± 1%
footprint R0603_H05M (Dim 1.6mm*0.8mm H=0.45mm)
pins: 1, 2
1 alternate drawing of the same symbol

## R_0603-8,2 кОм-1%-YAGEO
designator R?, comment value 8,2 к  (hidden comment: Резистор чип 0603-0,1 Вт-8,2 кОм ±1% фирма "YAGEO")
чип 0603-0,1 Вт-8,2 кОм ±1% фирма "YAGEO"; Power: 0,1 Вт; Tol: ± 1%; Manufacturer: фирма "YAGEO"; Name: Резистор; TYP: чип 0603; GOST: Резистор чип 0603-0,1 Вт-8,2 кОм ±1% фирма "YAGEO"
footprint R0603_H05M (Dim 1.6mm*0.8mm H=0.45mm)
pins: 1, 2
1 alternate drawing of the same symbol

## R_0603-8,2 Ом-1%-YAGEO
designator R?, comment value 8,2  (hidden comment: Резистор чип 0603-0,1 Вт-8,2 Ом ±1% фирма "YAGEO")
чип 0603-0,1 Вт-8,2 Ом ±1% фирма "YAGEO"; Power: 0,1 Вт; Tol: ± 1%; Manufacturer: фирма "YAGEO"; Name: Резистор; TYP: чип 0603; GOST: Резистор чип 0603-0,1 Вт-8,2 Ом ±1% фирма "YAGEO"
footprint R0603_H05M (Dim 1.6mm*0.8mm H=0.45mm)
pins: 1, 2
1 alternate drawing of the same symbol

## R_0603-9,1 кОм-1%-YAGEO
designator R?, comment value 9,1 к  (hidden comment: Резистор чип 0603-0,1 Вт-9,1 кОм ±1% фирма "YAGEO")
чип 0603-0,1 Вт-9,1 кОм ±1% фирма "YAGEO"; Power: 0,1 Вт; Tol: ± 1%; Manufacturer: фирма "YAGEO"; Name: Резистор; TYP: чип 0603; GOST: Резистор чип 0603-0,1 Вт-9,1 кОм ±1% фирма "YAGEO"
footprint R0603_H05M (Dim 1.6mm*0.8mm H=0.45mm)
pins: 1, 2
1 alternate drawing of the same symbol

## R_0603-9,1 Ом-1%-YAGEO
designator R?, comment value 9,1  (hidden comment: Резистор чип 0603-0,1 Вт-9,1 Ом ±1% фирма "YAGEO")
чип 0603-0,1 Вт-9,1 Ом ±1% фирма "YAGEO"; Power: 0,1 Вт; Tol: ± 1%; Manufacturer: фирма "YAGEO"; Name: Резистор; TYP: чип 0603; GOST: Резистор чип 0603-0,1 Вт-9,1 Ом ±1% фирма "YAGEO"
footprint R0603_H05M (Dim 1.6mm*0.8mm H=0.45mm)
pins: 1, 2
1 alternate drawing of the same symbol

## R_0603-9,09 кОм-1%-YAGEO
designator R?, comment value 9,09 к  (hidden comment: Резистор чип 0603-0,1 Вт-9,09 кОм ±1% фирма "YAGEO")
чип 0603-0,1 Вт-9,09 кОм ±1% фирма "YAGEO"; Power: 0,1 Вт; Tol: ± 1%; Manufacturer: фирма "YAGEO"; Name: Резистор; TYP: чип 0603; GOST: Резистор чип 0603-0,1 Вт-9,09 кОм ±1% фирма "YAGEO"
footprint R0603_H05M (Dim 1.6mm*0.8mm H=0.45mm)
pins: 1, 2
1 alternate drawing of the same symbol

## R_0603-9,53 кОм-1%-YAGEO
designator R?, comment value 9,53 к  (hidden comment: Резистор чип 0603-0,1 Вт-9,53 кОм ±1% фирма "YAGEO")
чип 0603-0,1 Вт-9,53 кОм ±1% фирма "YAGEO"; Power: 0,1 Вт; Tol: ± 1%; Manufacturer: фирма "YAGEO"; Name: Резистор; TYP: чип 0603; GOST: Резистор чип 0603-0,1 Вт-9,53 кОм ±1% фирма "YAGEO"
footprint R0603_H05M (Dim 1.6mm*0.8mm H=0.45mm)
pins: 1, 2
1 alternate drawing of the same symbol

## R_0603-10 кОм-1%-YAGEO
designator R?, comment value 10 к  (hidden comment: Резистор чип 0603-0,1 Вт-10 кОм ±1% фирма "YAGEO")
чип 0603-0,1 Вт-10 кОм ±1% фирма "YAGEO"; Power: 0,1 Вт; Tol: ± 1%; Manufacturer: фирма "YAGEO"; Name: Резистор; TYP: чип 0603; GOST: Резистор чип 0603-0,1 Вт-10 кОм ±1% фирма "YAGEO"
footprint R0603_H05M (Dim 1.6mm*0.8mm H=0.45mm)
pins: 1, 2
1 alternate drawing of the same symbol

## R_0603-10 МОм-1%-YAGEO
designator R?, comment value 10 М  (hidden comment: Резистор чип 0603-0,1 Вт-10 МОм ±1% фирма "YAGEO")
чип 0603-0,1 Вт-10 МОм ±1% фирма "YAGEO"; Power: 0,1 Вт; Tol: ± 1%; Manufacturer: фирма "YAGEO"; Name: Резистор; TYP: чип 0603; GOST: Резистор чип 0603-0,1 Вт-10 МОм ±1% фирма "YAGEO"
footprint R0603_H05M (Dim 1.6mm*0.8mm H=0.45mm)
pins: 1, 2
1 alternate drawing of the same symbol

## R_0603-10 Ом-1%-YAGEO
designator R?, comment value 10  (hidden comment: Резистор чип 0603-0,1 Вт-10 Ом ±1% фирма "YAGEO")
чип 0603-0,1 Вт-10 Ом ±1% фирма "YAGEO"; Power: 0,1 Вт; Tol: ± 1%; Manufacturer: фирма "YAGEO"; Name: Резистор; TYP: чип 0603; GOST: Резистор чип 0603-0,1 Вт-10 Ом ±1% фирма "YAGEO"
footprint R0603_H05M (Dim 1.6mm*0.8mm H=0.45mm)
pins: 1, 2
1 alternate drawing of the same symbol

## R_0603-10,5 кОм-1%-YAGEO
designator R?, comment value 10,5 к  (hidden comment: Резистор чип 0603-0,1 Вт-10,5 кОм ±1% фирма "YAGEO")
чип 0603-0,1 Вт-10,5 кОм ±1% фирма "YAGEO"; Power: 0,1 Вт; Tol: ± 1%; Manufacturer: фирма "YAGEO"; Name: Резистор; TYP: чип 0603; GOST: Резистор чип 0603-0,1 Вт-10,5 кОм ±1% фирма "YAGEO"
footprint R0603_H05M (Dim 1.6mm*0.8mm H=0.45mm)
pins: 1, 2
1 alternate drawing of the same symbol

## R_0603-11 кОм-1%-YAGEO
designator R?, comment value 11 к  (hidden comment: Резистор чип 0603-0,1 Вт-11 кОм ±1% фирма "YAGEO")
чип 0603-0,1 Вт-11 кОм ±1% фирма "YAGEO"; Power: 0,1 Вт; Tol: ± 1%; Manufacturer: фирма "YAGEO"; Name: Резистор; TYP: чип 0603; GOST: Резистор чип 0603-0,1 Вт-11 кОм ±1% фирма "YAGEO"
footprint R0603_H05M (Dim 1.6mm*0.8mm H=0.45mm)
pins: 1, 2
1 alternate drawing of the same symbol

## R_0603-11 Ом-1%-YAGEO
designator R?, comment value 11  (hidden comment: Резистор чип 0603-0,1 Вт-11 Ом ±1% фирма "YAGEO")
чип 0603-0,1 Вт-11 Ом ±1% фирма "YAGEO"; Power: 0,1 Вт; Tol: ± 1%; Manufacturer: фирма "YAGEO"; Name: Резистор; TYP: чип 0603; GOST: Резистор чип 0603-0,1 Вт-11 Ом ±1% фирма "YAGEO"
footprint R0603_H05M (Dim 1.6mm*0.8mm H=0.45mm)
pins: 1, 2
1 alternate drawing of the same symbol

## R_0603-12 кОм-1%-YAGEO
designator R?, comment value 12 к  (hidden comment: Резистор чип 0603-0,1 Вт-12 кОм ±1% фирма "YAGEO")
чип 0603-0,1 Вт-12 кОм ±1% фирма "YAGEO"; Power: 0,1 Вт; Tol: ± 1%; Manufacturer: фирма "YAGEO"; Name: Резистор; TYP: чип 0603; GOST: Резистор чип 0603-0,1 Вт-12 кОм ±1% фирма "YAGEO"
footprint R0603_H05M (Dim 1.6mm*0.8mm H=0.45mm)
pins: 1, 2
1 alternate drawing of the same symbol

## R_0603-12 Ом-1%-YAGEO
designator R?, comment value 12  (hidden comment: Резистор чип 0603-0,1 Вт-12 Ом ±1% фирма "YAGEO")
чип 0603-0,1 Вт-12 Ом ±1% фирма "YAGEO"; Power: 0,1 Вт; Tol: ± 1%; Manufacturer: фирма "YAGEO"; Name: Резистор; TYP: чип 0603; GOST: Резистор чип 0603-0,1 Вт-12 Ом ±1% фирма "YAGEO"
footprint R0603_H05M (Dim 1.6mm*0.8mm H=0.45mm)
pins: 1, 2
1 alternate drawing of the same symbol

## R_0603-12,1 кОм-1%-YAGEO
designator R?, comment value 12,1 к  (hidden comment: Резистор чип 0603-0,1 Вт-12,1 кОм ±1% фирма "YAGEO")
чип 0603-0,1 Вт-12,1 кОм ±1% фирма "YAGEO"; Power: 0,1 Вт; Tol: ± 1%; Manufacturer: фирма "YAGEO"; Name: Резистор; TYP: чип 0603; GOST: Резистор чип 0603-0,1 Вт-12,1 кОм ±1% фирма "YAGEO"
footprint R0603_H05M (Dim 1.6mm*0.8mm H=0.45mm)
pins: 1, 2
1 alternate drawing of the same symbol

## R_0603-13 кОм-1%-YAGEO
designator R?, comment value 13 к  (hidden comment: Резистор чип 0603-0,1 Вт-13 кОм ±1% фирма "YAGEO")
чип 0603-0,1 Вт-13 кОм ±1% фирма "YAGEO"; Power: 0,1 Вт; Tol: ± 1%; Manufacturer: фирма "YAGEO"; Name: Резистор; TYP: чип 0603; GOST: Резистор чип 0603-0,1 Вт-13 кОм ±1% фирма "YAGEO"
footprint R0603_H05M (Dim 1.6mm*0.8mm H=0.45mm)
pins: 1, 2
1 alternate drawing of the same symbol

## R_0603-13 Ом-1%-YAGEO
designator R?, comment value 13  (hidden comment: Резистор чип 0603-0,1 Вт-13 Ом ±1% фирма "YAGEO")
чип 0603-0,1 Вт-13 Ом ±1% фирма "YAGEO"; Power: 0,1 Вт; Tol: ± 1%; Manufacturer: фирма "YAGEO"; Name: Резистор; TYP: чип 0603; GOST: Резистор чип 0603-0,1 Вт-13 Ом ±1% фирма "YAGEO"
footprint R0603_H05M (Dim 1.6mm*0.8mm H=0.45mm)
pins: 1, 2
1 alternate drawing of the same symbol

## R_0603-14 кОм-1%-YAGEO
designator R?, comment value 14 к  (hidden comment: Резистор чип 0603-0,1 Вт-14 кОм ±1% фирма "YAGEO")
чип 0603-0,1 Вт-14 кОм ±1% фирма "YAGEO"; Power: 0,1 Вт; Tol: ± 1%; Manufacturer: фирма "YAGEO"; Name: Резистор; TYP: чип 0603; GOST: Резистор чип 0603-0,1 Вт-14 кОм ±1% фирма "YAGEO"
footprint R0603_H05M (Dim 1.6mm*0.8mm H=0.45mm)
pins: 1, 2
1 alternate drawing of the same symbol

## R_0603-15 кОм-1%-YAGEO
designator R?, comment value 15 к  (hidden comment: Резистор чип 0603-0,1 Вт-15 кОм ±1% фирма "YAGEO")
чип 0603-0,1 Вт-15 кОм ±1% фирма "YAGEO"; Power: 0,1 Вт; Tol: ± 1%; Manufacturer: фирма "YAGEO"; Name: Резистор; TYP: чип 0603; GOST: Резистор чип 0603-0,1 Вт-15 кОм ±1% фирма "YAGEO"
footprint R0603_H05M (Dim 1.6mm*0.8mm H=0.45mm)
pins: 1, 2
1 alternate drawing of the same symbol

## R_0603-15 Ом-1%-YAGEO
designator R?, comment value 15  (hidden comment: Резистор чип 0603-0,1 Вт-15 Ом ±1% фирма "YAGEO")
чип 0603-0,1 Вт-15 Ом ±1% фирма "YAGEO"; Power: 0,1 Вт; Tol: ± 1%; Manufacturer: фирма "YAGEO"; Name: Резистор; TYP: чип 0603; GOST: Резистор чип 0603-0,1 Вт-15 Ом ±1% фирма "YAGEO"
footprint R0603_H05M (Dim 1.6mm*0.8mm H=0.45mm)
pins: 1, 2
1 alternate drawing of the same symbol

## R_0603-16 кОм-1%-YAGEO
designator R?, comment value 16 к  (hidden comment: Резистор чип 0603-0,1 Вт-16 кОм ±1% фирма "YAGEO")
чип 0603-0,1 Вт-16 кОм ±1% фирма "YAGEO"; Power: 0,1 Вт; Tol: ± 1%; Manufacturer: фирма "YAGEO"; Name: Резистор; TYP: чип 0603; GOST: Резистор чип 0603-0,1 Вт-16 кОм ±1% фирма "YAGEO"
footprint R0603_H05M (Dim 1.6mm*0.8mm H=0.45mm)
pins: 1, 2
1 alternate drawing of the same symbol

## R_0603-16 Ом-1%-YAGEO
designator R?, comment value 16  (hidden comment: Резистор чип 0603-0,1 Вт-16 Ом ±1% фирма "YAGEO")
чип 0603-0,1 Вт-16 Ом ±1% фирма "YAGEO"; Power: 0,1 Вт; Tol: ± 1%; Manufacturer: фирма "YAGEO"; Name: Резистор; TYP: чип 0603; GOST: Резистор чип 0603-0,1 Вт-16 Ом ±1% фирма "YAGEO"
footprint R0603_H05M (Dim 1.6mm*0.8mm H=0.45mm)
pins: 1, 2
1 alternate drawing of the same symbol

## R_0603-17,8 кОм-1%-YAGEO
designator R?, comment value 17,8 к  (hidden comment: Резистор чип 0603-0,1 Вт-17,8 кОм ±1% фирма "YAGEO")
чип 0603-0,1 Вт-17,8 кОм ±1% фирма "YAGEO"; Power: 0,1 Вт; Tol: ± 1%; Manufacturer: фирма "YAGEO"; Name: Резистор; TYP: чип 0603; GOST: Резистор чип 0603-0,1 Вт-17,8 кОм ±1% фирма "YAGEO"
footprint R0603_H05M (Dim 1.6mm*0.8mm H=0.45mm)
pins: 1, 2
1 alternate drawing of the same symbol

## R_0603-18 кОм-1%-YAGEO
designator R?, comment value 18 к  (hidden comment: Резистор чип 0603-0,1 Вт-18 кОм ±1% фирма "YAGEO")
чип 0603-0,1 Вт-18 кОм ±1% фирма "YAGEO"; Power: 0,1 Вт; Tol: ± 1%; Manufacturer: фирма "YAGEO"; Name: Резистор; TYP: чип 0603; GOST: Резистор чип 0603-0,1 Вт-18 кОм ±1% фирма "YAGEO"
footprint R0603_H05M (Dim 1.6mm*0.8mm H=0.45mm)
pins: 1, 2
1 alternate drawing of the same symbol

## R_0603-18 Ом-1%-YAGEO
designator R?, comment value 18  (hidden comment: Резистор чип 0603-0,1 Вт-18 Ом ±1% фирма "YAGEO")
чип 0603-0,1 Вт-18 Ом ±1% фирма "YAGEO"; Power: 0,1 Вт; Tol: ± 1%; Manufacturer: фирма "YAGEO"; Name: Резистор; TYP: чип 0603; GOST: Резистор чип 0603-0,1 Вт-18 Ом ±1% фирма "YAGEO"
footprint R0603_H05M (Dim 1.6mm*0.8mm H=0.45mm)
pins: 1, 2
1 alternate drawing of the same symbol

## R_0603-19,1 кОм-1%-YAGEO
designator R?, comment value 19,1 к  (hidden comment: Резистор чип 0603-0,1 Вт-19,1 кОм ±1% фирма "YAGEO")
чип 0603-0,1 Вт-19,1 кОм ±1% фирма "YAGEO"; Power: 0,1 Вт; Tol: ± 1%; Manufacturer: фирма "YAGEO"; Name: Резистор; TYP: чип 0603; GOST: Резистор чип 0603-0,1 Вт-19,1 кОм ±1% фирма "YAGEO"
footprint R0603_H05M (Dim 1.6mm*0.8mm H=0.45mm)
pins: 1, 2
1 alternate drawing of the same symbol

## R_0603-20 кОм-1%-YAGEO
designator R?, comment value 20 к  (hidden comment: Резистор чип 0603-0,1 Вт-20 кОм ±1% фирма "YAGEO")
чип 0603-0,1 Вт-20 кОм ±1% фирма "YAGEO"; Power: 0,1 Вт; Tol: ± 1%; Manufacturer: фирма "YAGEO"; Name: Резистор; TYP: чип 0603; GOST: Резистор чип 0603-0,1 Вт-20 кОм ±1% фирма "YAGEO"
footprint R0603_H05M (Dim 1.6mm*0.8mm H=0.45mm)
pins: 1, 2
1 alternate drawing of the same symbol

## R_0603-20 Ом-1%-YAGEO
designator R?, comment value 20  (hidden comment: Резистор чип 0603-0,1 Вт-20 Ом ±1% фирма "YAGEO")
чип 0603-0,1 Вт-20 Ом ±1% фирма "YAGEO"; Power: 0,1 Вт; Tol: ± 1%; Manufacturer: фирма "YAGEO"; Name: Резистор; TYP: чип 0603; GOST: Резистор чип 0603-0,1 Вт-20 Ом ±1% фирма "YAGEO"
footprint R0603_H05M (Dim 1.6mm*0.8mm H=0.45mm)
pins: 1, 2
1 alternate drawing of the same symbol

## R_0603-22 кОм-1%-YAGEO
designator R?, comment value 22 к  (hidden comment: Резистор чип 0603-0,1 Вт-22 кОм ±1% фирма "YAGEO")
чип 0603-0,1 Вт-22 кОм ±1% фирма "YAGEO"; Power: 0,1 Вт; Tol: ± 1%; Manufacturer: фирма "YAGEO"; Name: Резистор; TYP: чип 0603; GOST: Резистор чип 0603-0,1 Вт-22 кОм ±1% фирма "YAGEO"
footprint R0603_H05M (Dim 1.6mm*0.8mm H=0.45mm)
pins: 1, 2
1 alternate drawing of the same symbol

## R_0603-22 Ом-1%-YAGEO
designator R?, comment value 22  (hidden comment: Резистор чип 0603-0,1 Вт-22 Ом ±1% фирма "YAGEO")
чип 0603-0,1 Вт-22 Ом ±1% фирма "YAGEO"; Power: 0,1 Вт; Tol: ± 1%; Manufacturer: фирма "YAGEO"; Name: Резистор; TYP: чип 0603; GOST: Резистор чип 0603-0,1 Вт-22 Ом ±1% фирма "YAGEO"
footprint R0603_H05M (Dim 1.6mm*0.8mm H=0.45mm)
pins: 1, 2
1 alternate drawing of the same symbol

## R_0603-24 кОм-1%-YAGEO
designator R?, comment value 24 к  (hidden comment: Резистор чип 0603-0,1 Вт-24 кОм ±1% фирма "YAGEO")
чип 0603-0,1 Вт-24 кОм ±1% фирма "YAGEO"; Power: 0,1 Вт; Tol: ± 1%; Manufacturer: фирма "YAGEO"; Name: Резистор; TYP: чип 0603; GOST: Резистор чип 0603-0,1 Вт-24 кОм ±1% фирма "YAGEO"
footprint R0603_H05M (Dim 1.6mm*0.8mm H=0.45mm)
pins: 1, 2
1 alternate drawing of the same symbol

## R_0603-24 Ом-1%-YAGEO
designator R?, comment value 24  (hidden comment: Резистор чип 0603-0,1 Вт-24 Ом ±1% фирма "YAGEO")
чип 0603-0,1 Вт-24 Ом ±1% фирма "YAGEO"; Power: 0,1 Вт; Tol: ± 1%; Manufacturer: фирма "YAGEO"; Name: Резистор; TYP: чип 0603; GOST: Резистор чип 0603-0,1 Вт-24 Ом ±1% фирма "YAGEO"
footprint R0603_H05M (Dim 1.6mm*0.8mm H=0.45mm)
pins: 1, 2
1 alternate drawing of the same symbol

## R_0603-24.9 кОм-1%-YAGEO
designator R?, comment value 24.9 к  (hidden comment: Резистор чип 0603-0,1 Вт-24.9 кОм ±1% фирма "YAGEO")
чип 0603-0,1 Вт-24.9 кОм ±1% фирма "YAGEO"; Power: 0,1 Вт; Tol: ± 1%; Manufacturer: фирма "YAGEO"; Name: Резистор; TYP: чип 0603; GOST: Резистор чип 0603-0,1 Вт-24.9 кОм ±1% фирма "YAGEO"
footprint R0603_H05M (Dim 1.6mm*0.8mm H=0.45mm)
pins: 1, 2
1 alternate drawing of the same symbol

## R_0603-25,5 кОм-1%-YAGEO
designator R?, comment value 25,5 к  (hidden comment: Резистор чип 0603-0,1 Вт-25,5 кОм ±1% фирма "YAGEO")
чип 0603-0,1 Вт-25,5 кОм ±1% фирма "YAGEO"; Power: 0,1 Вт; Tol: ± 1%; Manufacturer: фирма "YAGEO"; Name: Резистор; TYP: чип 0603; GOST: Резистор чип 0603-0,1 Вт-25,5 кОм ±1% фирма "YAGEO"
footprint R0603_H05M (Dim 1.6mm*0.8mm H=0.45mm)
pins: 1, 2
1 alternate drawing of the same symbol

## R_0603-27 кОм-1%-YAGEO
designator R?, comment value 27 к  (hidden comment: Резистор чип 0603-0,1 Вт-27 кОм ±1% фирма "YAGEO")
чип 0603-0,1 Вт-27 кОм ±1% фирма "YAGEO"; Power: 0,1 Вт; Tol: ± 1%; Manufacturer: фирма "YAGEO"; Name: Резистор; TYP: чип 0603; GOST: Резистор чип 0603-0,1 Вт-27 кОм ±1% фирма "YAGEO"
footprint R0603_H05M (Dim 1.6mm*0.8mm H=0.45mm)
pins: 1, 2
1 alternate drawing of the same symbol